# EAGLE library part FOOTSWITCH (library Sam-lib_test)
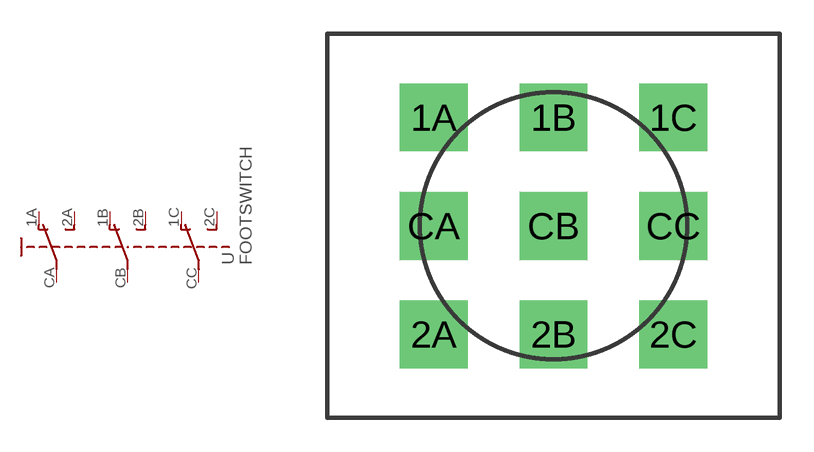
[diagram p1: symbol with the pads of FT_3PDT; footprint FT_3PDT]

Designator prefix -

## FOOTSWITCH  [FT_3PDT]
1A  1A  pas
1B  1B  pas
1C  1C  pas
2A  2A  pas
2B  2B  pas
2C  2C  pas
CA  CA  pas
CB  CB  pas
CC  CC  pas

## Footprint FT_3PDT (pad centres in mm)
TOGGLE SWITCH distributor RS Components
drill 2 pad 3 square: 1A -5.3,4.8; 1B 0,4.8; 1C 5.3,4.8; 2A -5.3,-4.8; 2B 0,-4.8; 2C 5.3,-4.8; CA -5.3,0; CB 0,0; CC 5.3,0